# Altium footprint library JEDEC_MS-012AA.PcbLib: 1 footprints
Each footprint in its own frame and in the unit in brackets; x right, y up, seen from the top. Pads: shape width x height; smd on the part's side, far side on the other; paste and mask are expansions set on the pad; w line width, h text height; cw(c..) or ccw(c..) is an arc to the next point about the centre after c.
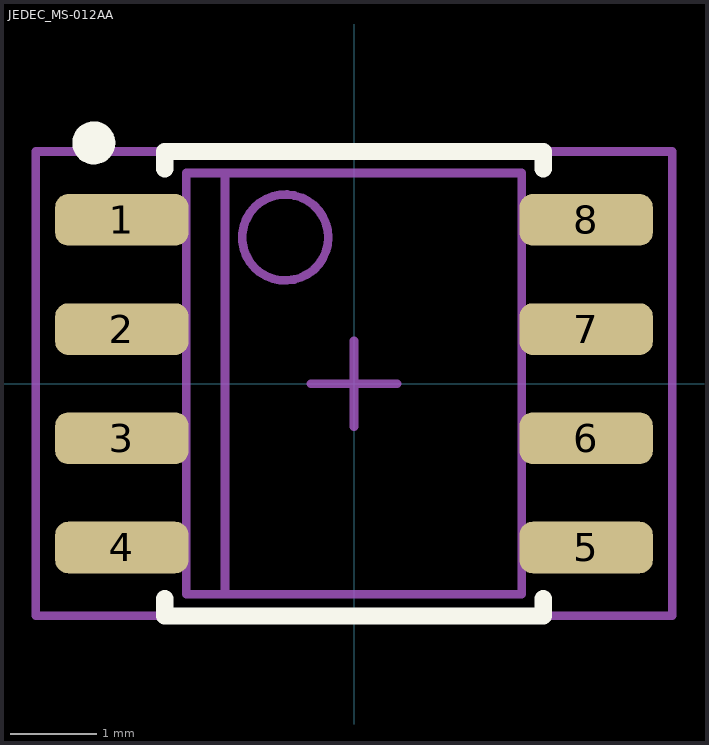
[diagram p0: the footprint, top view; thin cyan lines are the x and y axes]

## JEDEC_MS-012AA [mm] "SOP, 8-Leads, Body 4x5mm, Pitch 1.27mm, IPC High Density"
height 1.7
pads (8):
  rrect50% 1.55x0.6 smd: 1(-2.7,1.905) 2(-2.7,0.635) 3(-2.7,-0.635) 4(-2.7,-1.905) 5(2.7,-1.905) 6(2.7,-0.635) 7(2.7,0.635) 8(2.7,1.905)
Top Overlay:
  circle w0.25: c-3.025,2.8 r0.125
  lines w0.2: -2.2,-2.5 -2.2,-2.7 1.2,-2.7 2.2,-2.7 2.2,-2.5 ; -2.2,2.5 -2.2,2.7 -1.2,2.7 2.2,2.7 2.2,2.5
Mechanical 13:
  circle w0.1: c-0.8,1.7 r0.5
  lines w0.1: -1.5,-2.45 -1.5,2.45 ; -1.95,-2.45 1.95,-2.45 1.95,2.45 -1.95,2.45 -1.95,-2.45
Mechanical 15:
  lines w0.1: -0.5,0 0.5,0 ; 0,-0.5 0,0.5 ; -3.7,-2.7 3.7,-2.7 3.7,2.7 -3.7,2.7 -3.7,-2.7
3D body: height 1.75, standoff 0.1, extent -1.95,-2.45 1.95,2.45